# Altium footprint library projectlibrary.PcbLib: 18 footprints (part 1 of 2)
Each footprint in its own frame and in the unit in brackets; x right, y up, seen from the top. Pads: shape width x height; smd on the part's side, far side on the other; paste and mask are expansions set on the pad; w line width, h text height; cw(c..) or ccw(c..) is an arc to the next point about the centre after c.
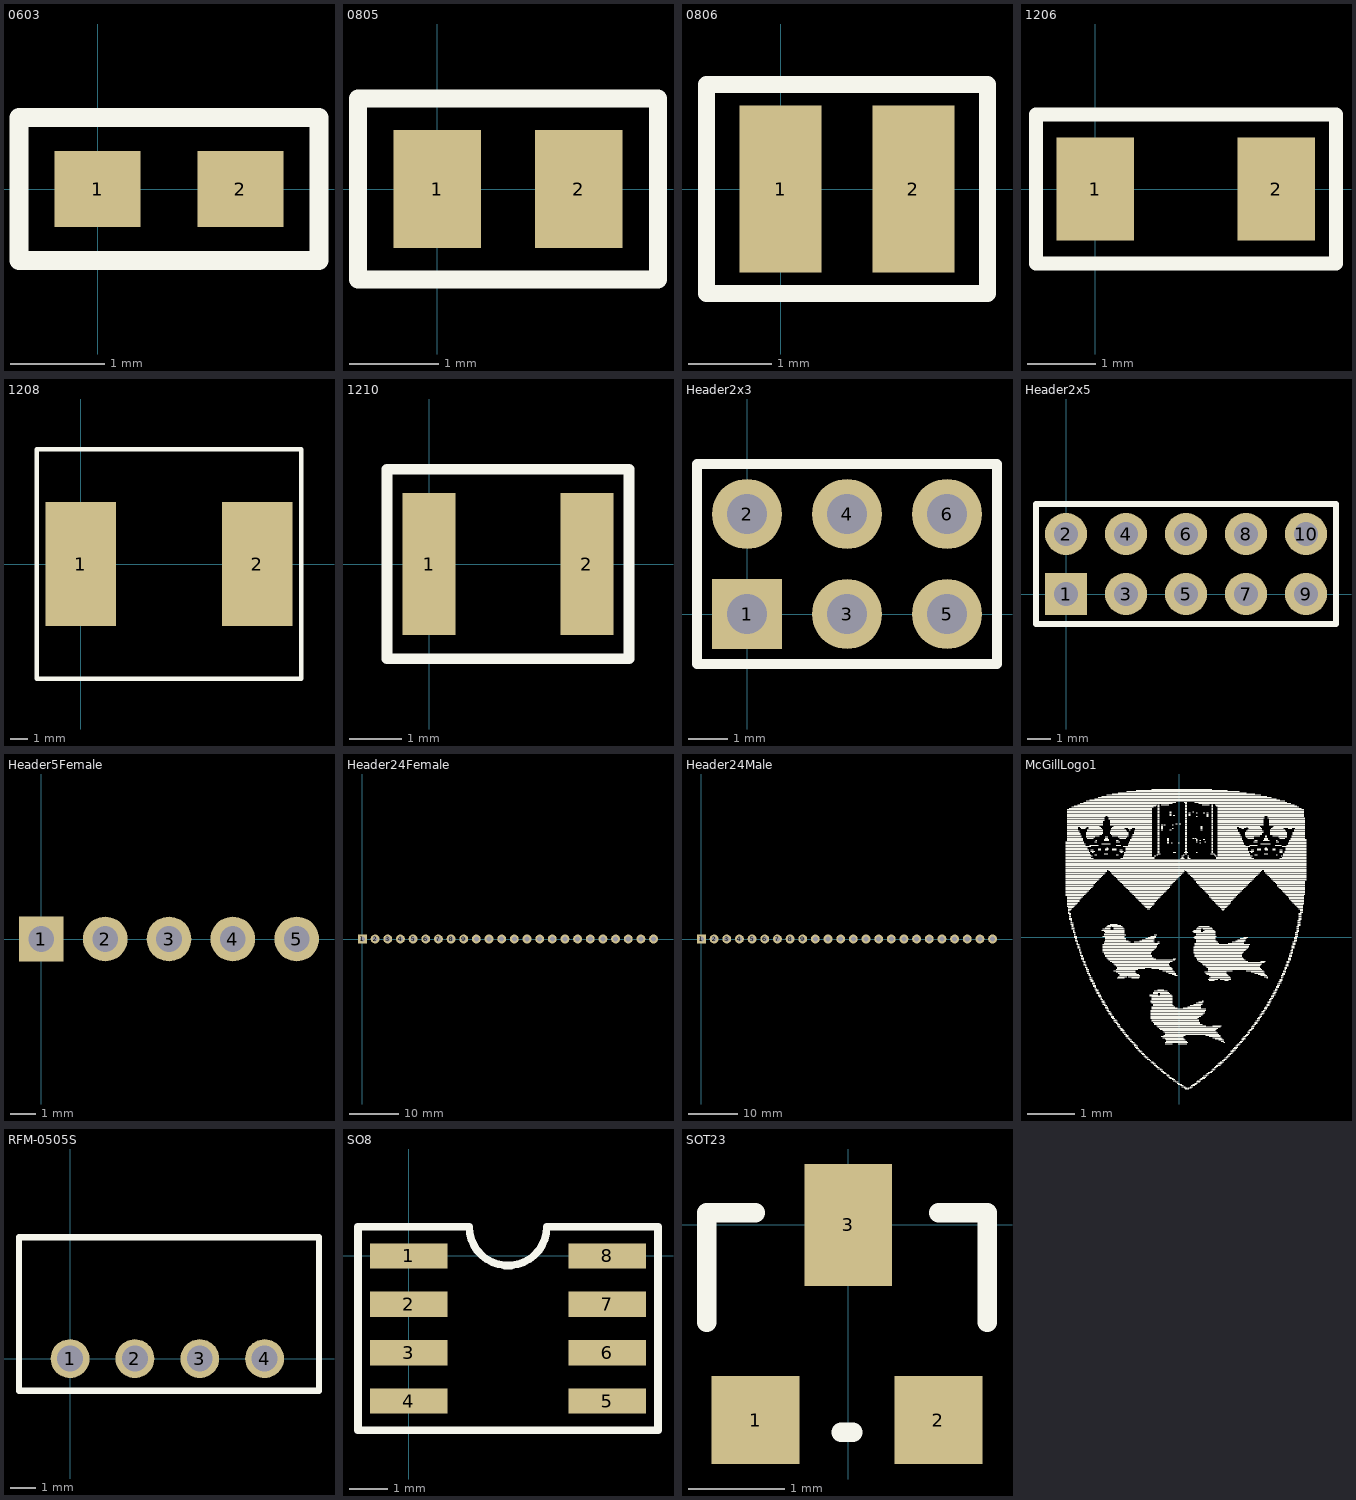
[diagram p0: the footprints below, top view; thin cyan lines are the x and y axes]

## 0603 [mil]
pads (2):
  rect 36x32 smd: 1(0,0) 2(60,0)
Top Overlay:
  lines w8: -33,-30 -33,30 93,30 93,-30 -33,-30

## 0805 [mil]
pads (2):
  rect 38.5x52 smd: 1(0,0) 2(62.5,0)
Top Overlay:
  lines w8: -35,-40 97.5,-40 97.5,40 -35,40 -35,-40

## 0806 [mil]
pads (2):
  rect 38.5x78.74 smd: 1(0,0) 2(62.5,0)
Top Overlay:
  lines w8: -35,-49.21 -35,49.21 97.5,49.21 97.5,-49.21 -35,-49.21

## 1206 [mil]
pads (2):
  rect 45x60 smd: 1(0,0) 2(105,0)
Top Overlay:
  lines w8: -34.45,-43.31 -34.45,43.31 139.76,43.31 139.76,-43.31 -34.45,-43.31

## 1208 [mm]
pads (2):
  rect 4x7 smd: 1(0,0) 2(10,0)
Top Overlay:
  lines w0.254: -2.5,-6.5 12.5,-6.5 12.5,6.5 -2.5,6.5 -2.5,-6.5

## 1210 [mm]
pads (2):
  rect 1x2.7 smd: 1(0,0) 2(3,0)
Top Overlay:
  lines w0.203: -0.8,-1.8 3.8,-1.8 3.8,1.8 -0.8,1.8 -0.8,-1.8

## Header2x3 [mil]
pads (6):
  rect 70x70 hole 40: 1(0,0)
  round 70 hole 40: 2(0,100) 3(100,0) 4(100,100) 5(200,0) 6(200,100)
Top Overlay:
  lines w10: -50,-50 -50,150 250,150 250,-50 -50,-50

## Header2x5 [mil]
pads (10):
  rect 70x70 hole 40: 1(0,0)
  round 70 hole 40: 2(0,100) 3(100,0) 4(100,100) 5(200,0) 6(200,100) 7(300,0) 8(300,100) 9(400,0) 10(400,100)
Top Overlay:
  lines w10: -50,-50 450,-50 450,150 -50,150 -50,-50
3D body "Download_STP_61301021121 (rev1).stp": height 336.22, standoff -118.11, extent -46.06,-53.94 453.94,146.06

## Header5Female [mil] "Header5Female"
height 335
pads (5):
  rect 70x70 hole 40: 1(0,0)
  round 70 hole 40: 2(100,0) 3(200,0) 4(300,0) 5(400,0)
3D body "_ _ _C051LFBN-RC.STEP": height 334.65, standoff -125.98, extent -60.04,-50 459.65,50

## Header24Female [mil] "Header24Female"
height 335
pads (24):
  rect 70x70 hole 40: 1(0,0)
  round 70 hole 40: 2(100,0) 3(200,0) 4(300,0) 5(400,0) 6(500,0) 7(600,0) 8(700,0) 9(800,0) 10(900,0) 11(1000,0) 12(1100,0) 13(1200,0) 14(1300,0) 15(1400,0) 16(1500,0) 17(1600,0) 18(1700,0) 19(1800,0) 20(1900,0) 21(2000,0) 22(2100,0) 23(2200,0) 24(2300,0)
3D body "_ _ _C241LFBN-RC.STEP": height 334.65, standoff -125.98, extent -60.04,-50 2359.65,50

## Header24Male [mil] "Header24Male"
height 335
pads (24):
  rect 70x70 hole 40: 1(0,0)
  round 70 hole 40: 2(100,0) 3(200,0) 4(300,0) 5(400,0) 6(500,0) 7(600,0) 8(700,0) 9(800,0) 10(900,0) 11(1000,0) 12(1100,0) 13(1200,0) 14(1300,0) 15(1400,0) 16(1500,0) 17(1600,0) 18(1700,0) 19(1800,0) 20(1900,0) 21(2000,0) 22(2100,0) 23(2200,0) 24(2300,0)
3D body "61302411121 (rev1).stp": height 336.22, standoff -118.11, extent -50,-50 2350,50

## McGillLogo1 [mil] "McGillLogo"
Top Overlay:
  drawing of 1109 lines, arcs and shapes, not listed

## RFM-0505S [mil]
pads (4):
  round 60 hole 40: 1(0,0) 2(100,0) 3(200,0) 4(300,0)
Top Overlay:
  lines w10: -78.74,-49.21 383.86,-49.21 383.86,187.01 -78.74,187.01 -78.74,0 -78.74,-49.21
3D body: height 393.7, standoff 0, extent -78,-49 383,186

## SO8 [mil]
pads (8):
  rect 80x26 smd: 1(0,0) 2(0,-50) 3(0,-100) 4(0,-150) 5(205,-150) 6(205,-100) 7(205,-50) 8(205,0)
Top Overlay:
  lines w7.87: -52.5,-180 257.5,-180 257.5,30 142.5,30 cw(c102.5,30) 62.5,30 -52.5,30 -52.5,-180

## SOT23 [mil]
pads (3):
  rect 36x36 smd: 1(-38,-80) 2(37,-80)
  rect 36x50 smd: 3(0,0)
Top Overlay:
  lines w7.87: -58,-40 -58,5 -38,5 ; -3,-85 2,-85 ; 37,5 57,5 57,-40

## Teensy3.6 Model No pins [mil]
3D body "Teensy 3_6.STEP": height 106.59, standoff -61.5, extent -2154.25,-145 261,555